# EAGLE library part RFPIC675 (library microchip_rfpic)
rfpic rfpic12 rfpic12f675
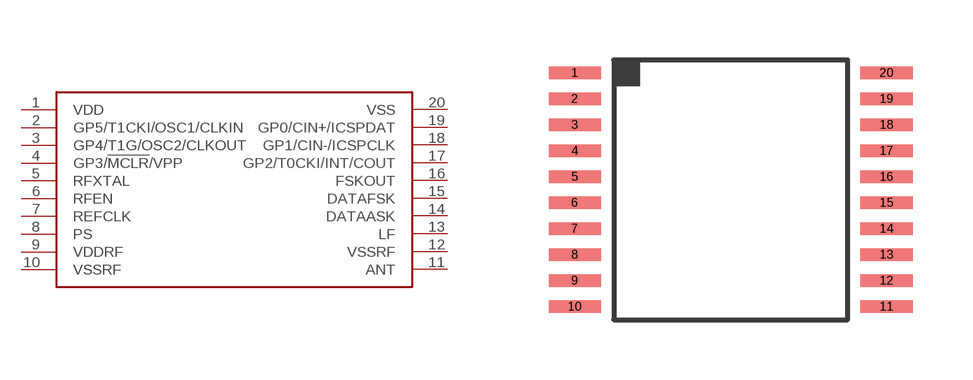
[diagram p0: symbol with the pads of RFPIC675; footprint RFPIC675]

Designator prefix -

## RFPIC675  [RFPIC675]
1  VDD
2  GP5/T1CKI/OSC1/CLKIN
3  GP4/T1G/OSC2/CLKOUT
4  GP3/!MCLR!/VPP
5  RFXTAL
6  RFEN
7  REFCLK
8  PS
9  VDDRF
10  VSSRF
11  ANT
12  VSSRF
13  LF
14  DATAASK
15  DATAFSK
16  FSKOUT
17  GP2/T0CKI/INT/COUT
18  GP1/CIN-/ICSPCLK
19  GP0/CIN+/ICSPDAT
20  VSS

## Footprint RFPIC675 (pad centres in mm)
rfpic12f675 rfpic rfpic12
smd 1.3 x 0.32: 1 0,0; 2 0,-0.65; 3 0,-1.3; 4 0,-1.95; 5 0,-2.6; 6 0,-3.25; 7 0,-3.9; 8 0,-4.55; 9 0,-5.2; 10 0,-5.85; 11 7.8,-5.85; 12 7.8,-5.2; 13 7.8,-4.55; 14 7.8,-3.9; 15 7.8,-3.25; 16 7.8,-2.6; 17 7.8,-1.95; 18 7.8,-1.3; 19 7.8,-0.65; 20 7.8,0